# Altium footprint library 交互.PcbLib: 2 footprints
Each footprint in its own frame and in the unit in brackets; x right, y up, seen from the top. Pads: shape width x height; smd on the part's side, far side on the other; paste and mask are expansions set on the pad; w line width, h text height; cw(c..) or ccw(c..) is an arc to the next point about the centre after c.
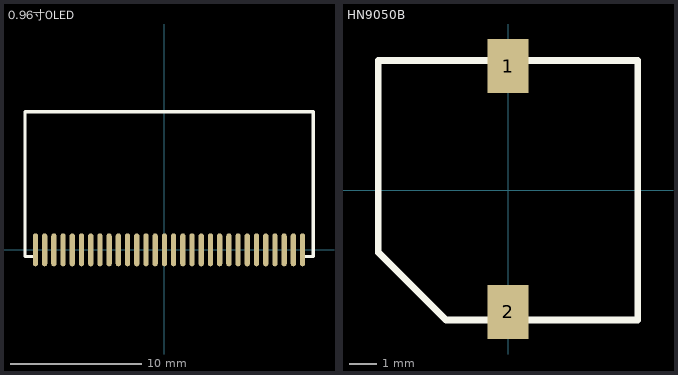
[diagram p0: the footprints below, top view; thin cyan lines are the x and y axes]

## 0.96寸OLED [mm]
pads (30):
  oval 0.4x2.5 smd: 1(-9.8,0) 2(-9.1,0) 3(-8.4,0) 4(-7.7,0) 5(-7,0) 6(-6.3,0) 7(-5.6,0) 8(-4.9,0) 9(-4.2,0) 10(-3.5,0) 11(-2.8,0) 12(-2.1,0) 13(-1.4,0) 14(-0.7,0) 15(0,0) 16(0.7,0) 17(1.4,0) 18(2.1,0) 19(2.8,0) 20(3.5,0) 21(4.2,0) 22(4.9,0) 23(5.6,0) 24(6.3,0) 25(7,0) 26(7.7,0) 27(8.4,0) 28(9.1,0) 29(9.8,0) 30(10.5,0)
Top Overlay:
  lines w0.254: -9.8,-0.5 -10.6,-0.5 -10.6,10.5 11.3,10.5 11.3,-0.5 10.5,-0.5

## HN9050B [mm]
pads (2):
  rect 1.524x2 smd: 1(0,4.6) 2(0,-4.5)
Top Overlay:
  lines w0.254: -4.8,-2.3 -2.3,-4.8 4.8,-4.8 4.8,4.8 -4.8,4.8 -4.8,-2.3
3D body: height 5, standoff 0, extent -4.806,-4.815 4.794,4.785